# Altium footprint library DRV8305NPHPR.PcbLib: 1 footprints
Each footprint in its own frame and in the unit in brackets; x right, y up, seen from the top. Pads: shape width x height; smd on the part's side, far side on the other; paste and mask are expansions set on the pad; w line width, h text height; cw(c..) or ccw(c..) is an arc to the next point about the centre after c.
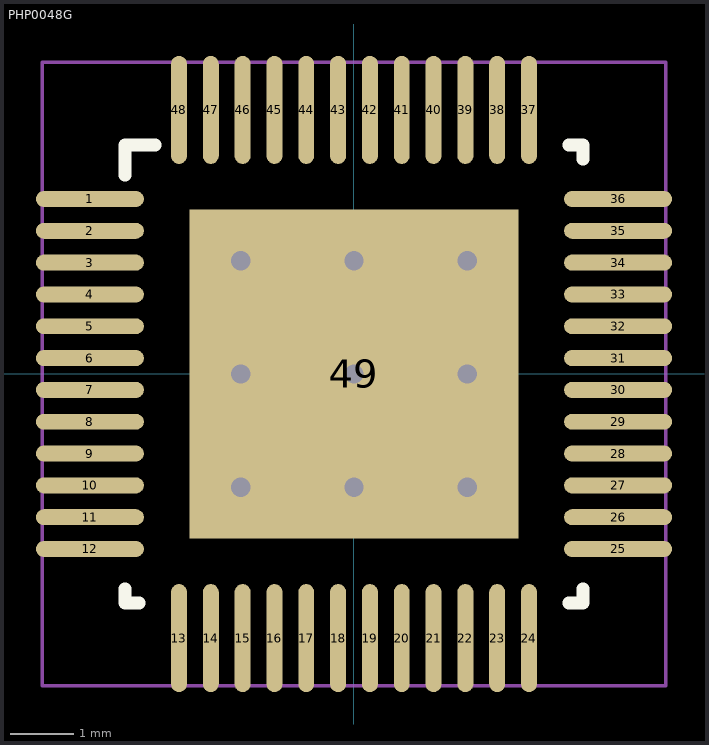
[diagram p0: the footprint, top view; thin cyan lines are the x and y axes]

## PHP0048G [mm]
pads (49):
  oval 1.7x0.25 smd paste+0 mask+0.051: 1(-4.15,2.75) 2(-4.15,2.25) 3(-4.15,1.75) 4(-4.15,1.25) 5(-4.15,0.75) 6(-4.15,0.25) 7(-4.15,-0.25) 8(-4.15,-0.75) 9(-4.15,-1.25) 10(-4.15,-1.75) 11(-4.15,-2.25) 12(-4.15,-2.75) 25(4.15,-2.75) 26(4.15,-2.25) 27(4.15,-1.75) 28(4.15,-1.25) 29(4.15,-0.75) 30(4.15,-0.25) 31(4.15,0.25) 32(4.15,0.75) 33(4.15,1.25) 34(4.15,1.75) 35(4.15,2.25) 36(4.15,2.75)
  oval 0.25x1.7 smd paste+0 mask+0.051: 13(-2.75,-4.15) 14(-2.25,-4.15) 15(-1.75,-4.15) 16(-1.25,-4.15) 17(-0.75,-4.15) 18(-0.25,-4.15) 19(0.25,-4.15) 20(0.75,-4.15) 21(1.25,-4.15) 22(1.75,-4.15) 23(2.25,-4.15) 24(2.75,-4.15) 37(2.75,4.15) 38(2.25,4.15) 39(1.75,4.15) 40(1.25,4.15) 41(0.75,4.15) 42(0.25,4.15) 43(-0.25,4.15) 44(-0.75,4.15) 45(-1.25,4.15) 46(-1.75,4.15) 47(-2.25,4.15) 48(-2.75,4.15)
  rect 5.17x5.17 smd paste+0 mask+0.051: 49(0,0)
via 0,0 diameter 0.6 hole 0.305
via 1.778,1.778 diameter 0.6 hole 0.305
via 0,1.778 diameter 0.6 hole 0.305
via -1.778,1.778 diameter 0.6 hole 0.305
via -1.778,0 diameter 0.6 hole 0.305
via -1.778,-1.778 diameter 0.6 hole 0.305
via 0,-1.778 diameter 0.6 hole 0.305
via 1.778,-1.778 diameter 0.6 hole 0.305
via 1.778,0 diameter 0.6 hole 0.305
Top Overlay:
  lines w0.2: -3.6,-3.375 -3.6,-3.6 -3.375,-3.6 ; -3.6,3.125 -3.6,3.6 -3.125,3.6 ; 3.375,-3.6 3.6,-3.6 3.6,-3.375 ; 3.375,3.6 3.6,3.6 3.6,3.375
Mechanical 15:
  lines w0.05: -4.9,-4.9 4.9,-4.9 4.9,4.9 -4.9,4.9 -4.9,-4.9
  lines w0.1: -0.5,0 0.5,0 ; 0,-0.5 0,0.5
3D body "PHP0048N.stp": height 1.1, standoff 0, extent -4.516,-4.515 4.515,4.516